# EAGLE library part LP8733* (library IC_Power-Management)
Dual High-Current Buck Converter and Dual Linear Regulator Datasheet <https://www.ti.com/lit/ds/symlink/lp8733.pdf?ts=1614847224360&ref_url=https%253A%252F%252Fwww.ti.com%252Fproduct%252FLP8733%253Futm_source%253Dgoogle%2526utm_medium%253Dcpc%2526utm_campaign%253Dapp-null-null-GPN_EN-cpc-pf-google-eu%2526utm_content%253DLP8733%2526ds_k%253DLP8733%2526DCM%253Dyes%2526gclid%253DEAIaIQobChMIs7SC1I-W7wIVUPBRCh2ytQCEEAAYASAAEgIli_D_BwE%2526gclsrc%253Daw.ds> Note:For this part User needs to add thermal via in thermal pad for more details refer landpattern section in datasheet.
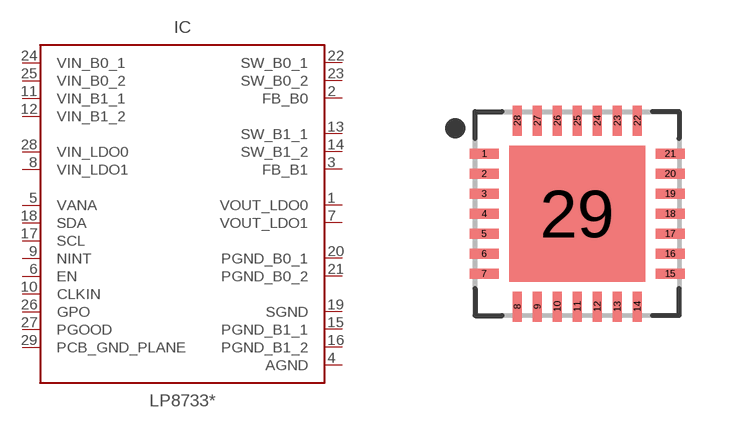
[diagram p11: symbol with the pads of QFN50P500X500X100-29T340; footprint QFN50P500X500X100-29T340]

Designator prefix IC

## LP873347RHDR (CATEGORY: IC_Power-Management; DESCRIPTION: LP8733xx Dual High-Current Buck Converter and Dual Linear Regulator; MANUFACTURER: TEXAS INSTRUMENTS; MPN: LP873347RHDR; OPERATING_TEMP: –40°C to +125°C; PART_STATUS: Active; ROHS_COMPLIANT: COMPLIANT; SERIES: LP8733; SUB-CATEGORY: Voltage Regulator; VALUE: LP873347), LP873347RHDT (CATEGORY: IC_Power-Management; DESCRIPTION: LP8733xx Dual High-Current Buck Converter and Dual Linear Regulator; MANUFACTURER: TEXAS INSTRUMENTS; MPN: LP873347RHDT; OPERATING_TEMP: –40°C to +125°C; PART_STATUS: Active; ROHS_COMPLIANT: COMPLIANT; SERIES: LP8733; SUB-CATEGORY: Voltage Regulator; VALUE: LP873347)  [QFN50P500X500X100-29T340]
1  VOUT_LDO0  out
2  FB_B0  out
3  FB_B1  out
4  AGND  pwr
5  VANA  pwr
6  EN  in
7  VOUT_LDO1  out
8  VIN_LDO1  out
9  NINT  out
10  CLKIN  in
11  VIN_B1_1  pwr
12  VIN_B1_2  pwr
13  SW_B1_1  out
14  SW_B1_2  out
15  PGND_B1_1  pwr
16  PGND_B1_2  pwr
17  SCL  in
18  SDA
19  SGND  pwr
20  PGND_B0_1  pwr
21  PGND_B0_2  pwr
22  SW_B0_1  out
23  SW_B0_2  out
24  VIN_B0_1  pwr
25  VIN_B0_2  pwr
26  GPO  out
27  PGOOD  out
28  VIN_LDO0  pwr
29  PCB_GND_PLANE

## Footprint QFN50P500X500X100-29T340 (pad centres in mm)
28-QFN, 0.50 mm pitch, 5.00 X 5.00 X 1.00 mm body, 3.40 X 3.40 mm thermal pad 28-pin QFN package with 0.50 mm pitch with body size 5.00 X 5.00 X 1.00 mm and thermal pad size 3.40 X 3.40 mm
smd 0.75 x 0.25: 1 -2.325,1.5; 2 -2.325,1; 3 -2.325,0.5; 4 -2.325,0; 5 -2.325,-0.5; 6 -2.325,-1; 7 -2.325,-1.5; 15 2.325,-1.5; 16 2.325,-1; 17 2.325,-0.5; 18 2.325,0; 19 2.325,0.5; 20 2.325,1; 21 2.325,1.5
smd 0.25 x 0.75: 8 -1.5,-2.325; 9 -1,-2.325; 10 -0.5,-2.325; 11 0,-2.325; 12 0.5,-2.325; 13 1,-2.325; 14 1.5,-2.325; 22 1.5,2.325; 23 1,2.325; 24 0.5,2.325; 25 0,2.325; 26 -0.5,2.325; 27 -1,2.325; 28 -1.5,2.325
smd 3.4 x 3.4: 29 0,0